# Altium footprint library PcbLib1.PcbLib: 54 footprints (part 3 of 4)
Each footprint in its own frame and in the unit in brackets; x right, y up, seen from the top. Pads: shape width x height; smd on the part's side, far side on the other; paste and mask are expansions set on the pad; w line width, h text height; cw(c..) or ccw(c..) is an arc to the next point about the centre after c.
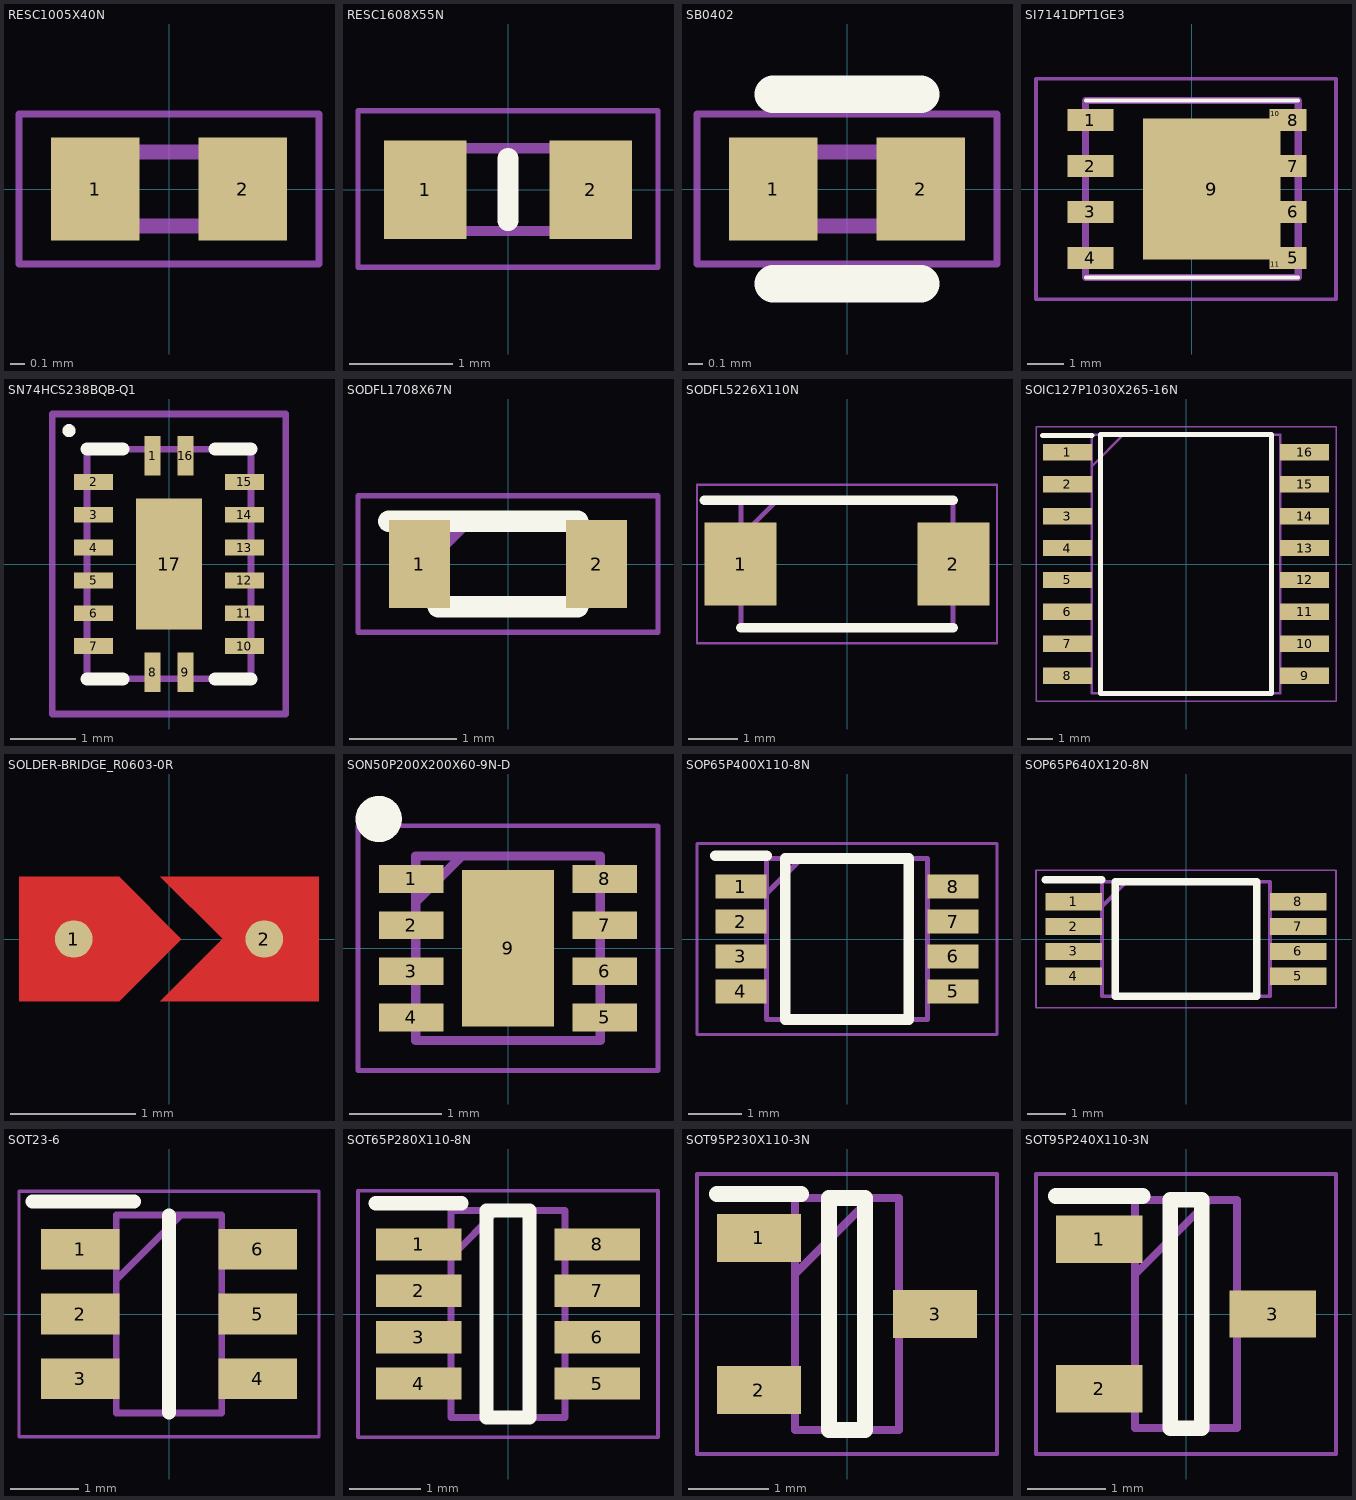
[diagram p2: the footprints below, top view; thin cyan lines are the x and y axes]

## RESC1005X40N [mm]
pads (2):
  rect 0.6x0.7 smd: 1(-0.5,0) 2(0.5,0)
Mechanical 13:
  lines w0.1: -0.5,-0.25 0.5,-0.25 0.5,0.25 -0.5,0.25 -0.5,-0.25
Mechanical 15:
  lines w0.05: -1.016,-0.508 -1.016,0.508 1.016,0.508 1.016,-0.508 -1.016,-0.508
3D body "CRG0402F100R.stp": height 0.4, standoff 0, extent -0.5,-0.25 0.5,0.25

## RESC1608X55N [mm]
pads (2):
  rect 0.8x0.95 smd: 1(-0.8,0) 2(0.8,0)
Top Overlay:
  lines w0.2: 0,-0.3 0,0.3
Mechanical 13:
  lines w0.1: -0.8,-0.4 0.8,-0.4 0.8,0.4 -0.8,0.4 -0.8,-0.4
Mechanical 15:
  lines w0.05: -1.45,-0.75 1.45,-0.75 1.45,0.762 -1.45,0.762 -1.45,-0.75
3D body "RC0603FR-0710KL.stp": height 0.55, standoff 0, extent -0.8,-0.4 0.8,0.4

## SB0402 [mm]
pads (2):
  rect 0.6x0.7 smd: 1(-0.5,0) 2(0.5,0)
Top Overlay:
  lines w0.254: -0.5,-0.643 0.5,-0.643 ; -0.5,0.643 0.5,0.643
Mechanical 13:
  lines w0.1: -0.5,-0.25 -0.5,0.25 0.5,0.25 0.5,-0.25 -0.5,-0.25
Mechanical 15:
  lines w0.05: -1.016,-0.508 1.016,-0.508 1.016,0.508 -1.016,0.508 -1.016,-0.508

## SI7141DPT1GE3 [mm]
pads (11):
  rect 1.27x0.61 smd: 1(-2.81,1.905) 2(-2.81,0.635) 3(-2.81,-0.635) 4(-2.81,-1.905)
  rect 0.71x0.61 smd: 5(2.81,-1.905) 6(2.81,-0.635) 7(2.81,0.635) 8(2.81,1.905)
  rect 3.81x3.91 smd: 9(0.55,0)
  rect 0.32x0.255 smd: 10(2.3,2.083) 11(2.3,-2.083)
Top Overlay:
  lines w0.1: -2.945,-2.45 2.945,-2.45 ; -2.945,2.45 2.945,2.45
Mechanical 13:
  lines w0.2: -2.945,-2.45 -2.945,2.45 2.945,2.45 2.945,-2.45 -2.945,-2.45
Mechanical 15:
  lines w0.1: -4.318,-3.048 -4.318,3.048 3.988,3.048 3.988,-3.048 -4.318,-3.048
3D body "SIR680DP-T1-RE3.stp": height 1.22, standoff 0, extent -3.384,-2.45 3.104,2.45

## SN74HCS238BQB-Q1 [mm]
pads (17):
  rect 0.24x0.6 smd: 1(-0.25,1.65) 8(-0.25,-1.65) 9(0.25,-1.65) 16(0.25,1.65)
  rect 0.6x0.24 smd: 2(-1.15,1.25) 3(-1.15,0.75) 4(-1.15,0.25) 5(-1.15,-0.25) 6(-1.15,-0.75) 7(-1.15,-1.25) 10(1.15,-1.25) 11(1.15,-0.75) 12(1.15,-0.25) 13(1.15,0.25) 14(1.15,0.75) 15(1.15,1.25)
  rect 1x2 smd: 17(0,0)
Top Overlay:
  lines w0.1: -1.574,2.032 cw(c-1.524,2.032) -1.474,2.032 cw(c-1.524,2.032) -1.574,2.032
  lines w0.2: -1.25,-1.75 -0.7,-1.75 ; -1.25,1.75 -0.7,1.75 ; 0.7,-1.75 1.2,-1.75 1.25,-1.75 ; 0.7,1.75 1.25,1.75
Mechanical 13:
  lines w0.1: -1.25,-1.75 1.25,-1.75 1.25,1.75 -1.25,1.75 -1.25,-1.75
Mechanical 15:
  lines w0.1: -1.778,-1.553 -1.778,2.286 ; 1.778,-2.286 1.778,2.286
  lines w0.102: -1.778,-1.553 -1.778,-2.286 1.778,-2.286 ; -1.778,2.286 1.778,2.286
3D body "SN74HCS238BQBR.stp": height 0.8, standoff 0, extent -1.25,-1.75 1.25,1.75

## SODFL1708X67N [mm]
pads (2):
  rect 0.57x0.82 smd: 1(-0.825,0) 2(0.825,0)
Top Overlay:
  lines w0.2: -1.11,0.4 0.65,0.4 ; -0.65,-0.4 0.65,-0.4
Mechanical 13:
  lines w0.1: -0.65,0.115 -0.365,0.4 ; -0.65,-0.4 -0.65,0.4 0.65,0.4 0.65,-0.4 -0.65,-0.4
Mechanical 15:
  lines w0.05: -1.397,-0.635 -1.397,0.635 1.397,0.635 1.397,-0.635 -1.397,-0.635
3D body "LS_L29K-H1J2-1-Z.stp": height 0.67, standoff 0, extent -0.85,-0.4 0.85,0.4

## SODFL5226X110N [mm]
pads (2):
  rect 1.46x1.67 smd: 1(-2.15,0) 2(2.15,0)
Top Overlay:
  lines w0.2: -2.88,1.288 2.138,1.288 ; -2.138,-1.288 2.138,-1.288
Mechanical 13:
  lines w0.1: -2.138,0.558 -1.408,1.288 ; -2.138,-1.288 2.138,-1.288 2.138,1.288 -2.138,1.288 -2.138,-1.288
Mechanical 15:
  lines w0.05: -3.03,-1.6 3.03,-1.6 3.03,1.6 -3.03,1.6 -3.03,-1.6
3D body "STPS1L30AFN.stp": height 1.1, standoff 0, extent -2.588,-1.288 2.588,1.288

## SOIC127P1030X265-16N [mm]
pads (16):
  rect 1.95x0.65 smd: 1(-4.725,4.445) 2(-4.725,3.175) 3(-4.725,1.905) 4(-4.725,0.635) 5(-4.725,-0.635) 6(-4.725,-1.905) 7(-4.725,-3.175) 8(-4.725,-4.445) 9(4.725,-4.445) 10(4.725,-3.175) 11(4.725,-1.905) 12(4.725,-0.635) 13(4.725,0.635) 14(4.725,1.905) 15(4.725,3.175) 16(4.725,4.445)
Top Overlay:
  lines w0.2: -5.7,5.12 -3.75,5.12 ; -3.4,-5.15 3.4,-5.15 3.4,5.15 -3.4,5.15 -3.4,-5.15
Mechanical 13:
  lines w0.1: -3.75,3.88 -2.48,5.15 ; -3.75,-5.15 3.75,-5.15 3.75,5.15 -3.75,5.15 -3.75,-5.15
Mechanical 15:
  lines w0.05: -5.969,-5.461 5.969,-5.461 5.969,5.461 -5.969,5.461 -5.969,-5.461
3D body "CD4050BDW.stp": height 2.65, standoff 0, extent -5.15,-5.15 5.15,5.15

## SOLDER-BRIDGE_R0603-0R [mm]
height 0.5
pads (2):
  round 0.3 smd: 1(-0.762,0) 2(0.762,0)
Top Layer:
  region: -1.2,0.5 -1.2,-0.5 -0.4,-0.5 0.1,0 -0.4,0.5
  region: -0.068,-0.5 0.432,0 -0.068,0.5 1.2,0.5 1.2,-0.5
Top Paste:
  region: -0.068,-0.5 0.432,0 -0.068,0.5 1.2,0.5 1.2,-0.5
  region: -1.2,0.5 -1.2,-0.5 -0.4,-0.5 0.1,0 -0.4,0.5

## SON50P200X200X60-9N-D [mm]
pads (9):
  rect 0.7x0.3 smd: 1(-1.05,0.75) 2(-1.05,0.25) 3(-1.05,-0.25) 4(-1.05,-0.75) 5(1.05,-0.75) 6(1.05,-0.25) 7(1.05,0.25) 8(1.05,0.75)
  rect 1x1.7 smd: 9(0,0)
Top Overlay:
  circle w0.25: c-1.4,1.4 r0.125
Mechanical 13:
  lines w0.1: -1,0.5 -0.5,1 ; -1,-1 1,-1 1,1 -1,1 -1,-1
Mechanical 15:
  lines w0.05: -1.625,-1.325 1.625,-1.325 1.625,1.325 -1.625,1.325 -1.625,-1.325
3D body "LM358QT.stp": height 0.6, standoff 0, extent -1.05,-1 1.05,1

## SOP65P400X110-8N [mm]
pads (8):
  rect 0.95x0.45 smd: 1(-1.975,0.975) 2(-1.975,0.325) 3(-1.975,-0.325) 4(-1.975,-0.975) 5(1.975,-0.975) 6(1.975,-0.325) 7(1.975,0.325) 8(1.975,0.975)
Top Overlay:
  lines w0.2: -2.45,1.55 -1.5,1.55 ; -1.15,-1.5 1.15,-1.5 1.15,1.5 -1.15,1.5 -1.15,-1.5
Mechanical 13:
  lines w0.1: -1.5,0.85 -0.85,1.5 ; -1.5,-1.5 1.5,-1.5 1.5,1.5 -1.5,1.5 -1.5,-1.5
Mechanical 15:
  lines w0.05: -2.794,-1.778 2.794,-1.778 2.794,1.778 -2.794,1.778 -2.794,-1.778
3D body "74LVC3G17DP,125.stp": height 1.1, standoff 0, extent -2,-1.5 2,1.5

## SOP65P640X120-8N [mm]
pads (8):
  rect 1.475x0.45 smd: 1(-2.938,0.975) 2(-2.938,0.325) 3(-2.938,-0.325) 4(-2.938,-0.975) 5(2.938,-0.975) 6(2.938,-0.325) 7(2.938,0.325) 8(2.938,0.975)
Top Overlay:
  lines w0.2: -3.675,1.55 -2.2,1.55 ; -1.85,-1.5 1.85,-1.5 1.85,1.5 -1.85,1.5 -1.85,-1.5
Mechanical 13:
  lines w0.1: -2.2,0.85 -1.55,1.5 ; -2.2,-1.5 2.2,-1.5 2.2,1.5 -2.2,1.5 -2.2,-1.5
Mechanical 15:
  lines w0.05: -3.925,-1.8 3.925,-1.8 3.925,1.8 -3.925,1.8 -3.925,-1.8
3D body "INA240A4PWR.stp": height 1.08, standoff -0.02, extent -3.21,-1.5 3.21,1.5

## SOT23-6 [mm]
pads (6):
  rect 1.15x0.6 smd: 1(-1.3,0.95) 2(-1.3,0) 3(-1.3,-0.95) 4(1.3,-0.95) 5(1.3,0) 6(1.3,0.95)
Top Overlay:
  lines w0.2: -2.008,1.651 -0.508,1.651 ; 0,-1.45 0,1.45
Mechanical 13:
  lines w0.1: -0.775,0.5 0.175,1.45 ; -0.775,-1.45 -0.775,1.45 0.775,1.45 0.775,-1.45 -0.775,-1.45
Mechanical 15:
  lines w0.05: -2.2,-1.8 -2.2,1.8 2.2,1.8 2.2,-1.8 -2.2,-1.8
3D body "SRV05-4L-TP.stp": height 1.45, standoff 0, extent -1.35,-1.45 1.35,1.45

## SOT65P280X110-8N [mm]
pads (8):
  rect 1.2x0.45 smd: 1(-1.25,0.975) 2(-1.25,0.325) 3(-1.25,-0.325) 4(-1.25,-0.975) 5(1.25,-0.975) 6(1.25,-0.325) 7(1.25,0.325) 8(1.25,0.975)
Top Overlay:
  lines w0.2: -1.85,1.55 -0.65,1.55 ; -0.3,-1.45 -0.3,1.45 0.3,1.45 0.3,-1.45 -0.3,-1.45
Mechanical 13:
  lines w0.1: -0.8,0.8 -0.15,1.45 ; -0.8,-1.45 -0.8,1.45 0.8,1.45 0.8,-1.45 -0.8,-1.45
Mechanical 15:
  lines w0.05: -2.1,-1.725 -2.1,1.725 2.1,1.725 2.1,-1.725 -2.1,-1.725
3D body "TLV9102IDDFR.stp": height 0.9, standoff 0, extent -1.41,-1.45 1.41,1.45

## SOT95P230X110-3N [mm]
pads (3):
  rect 1.05x0.6 smd: 1(-1.1,0.95) 2(-1.1,-0.95) 3(1.1,0)
Top Overlay:
  lines w0.2: -1.625,1.5 -0.575,1.5 ; -0.225,-1.45 0.225,-1.45 0.225,1.45 -0.225,1.45 -0.225,-1.45
Mechanical 13:
  lines w0.1: -0.65,0.5 0.3,1.45 ; -0.65,-1.45 0.65,-1.45 0.65,1.45 -0.65,1.45 -0.65,-1.45
Mechanical 15:
  lines w0.05: -1.875,-1.75 1.875,-1.75 1.875,1.75 -1.875,1.75 -1.875,-1.75
3D body "BC847A,235.stp": height 1.1, standoff 0, extent -1.15,-1.45 1.15,1.45

## SOT95P240X110-3N [mm]
pads (3):
  rect 1.1x0.6 smd: 1(-1.1,0.95) 2(-1.1,-0.95) 3(1.1,0)
Top Overlay:
  lines w0.2: -1.65,1.5 -0.55,1.5 ; -0.2,-1.45 0.2,-1.45 0.2,1.45 -0.2,1.45 -0.2,-1.45
Mechanical 13:
  lines w0.1: -0.65,0.5 0.3,1.45 ; -0.65,-1.45 0.65,-1.45 0.65,1.45 -0.65,1.45 -0.65,-1.45
Mechanical 15:
  lines w0.05: -1.905,-1.778 1.905,-1.778 1.905,1.778 -1.905,1.778 -1.905,-1.778
3D body "BAT54S.stp": height 1.1, standoff 0, extent -1.2,-1.45 1.2,1.45